# Altium schematic symbol library Schlib SOM AM625.SchLib: 118 symbols (part 1 of 4)
Pins are listed as number, name and electrical type; pins without a type are passive.

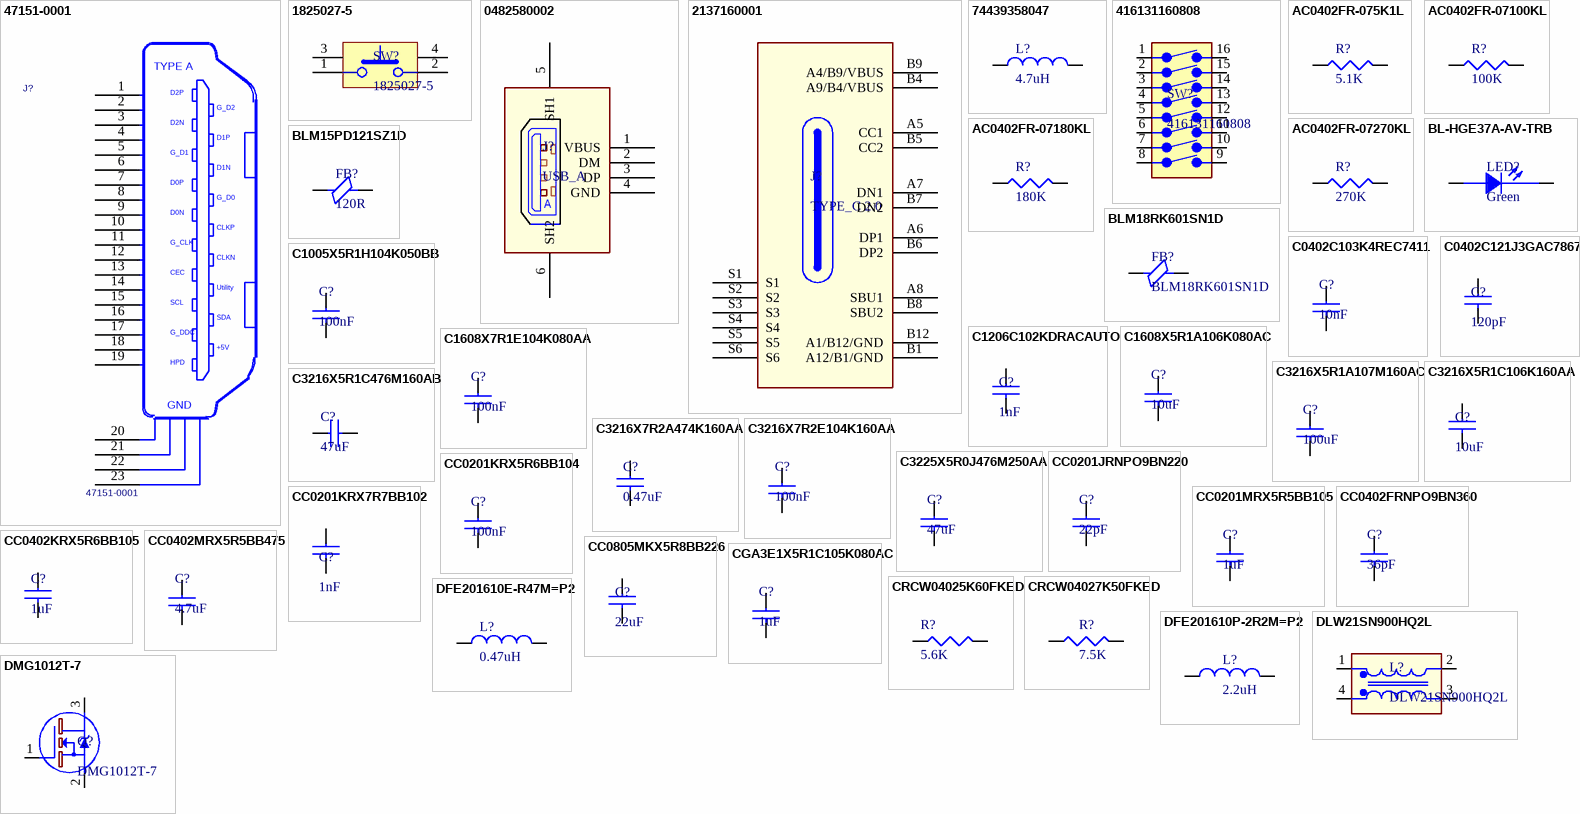
[diagram p0: symbols 47151-0001 to DMG1012T-7]

## 47151-0001
designator J?
CONN RCPT 19POS HDMI RT ANG SMD; Manufacturer: Molex Connector Corporation; .Checked PCB: used; Number of Positions: 19; Pitch: 0.50mm (.020"); Gender: Receptacle; .Checked SCH: used; Category: Connectors, Interconnects; Connector Type: HDMI; Family: USB, IEEE-1394 (Firewire), DVI, HDMI; Manufacturer Part Number: 47151-0001; Operating Temperature: -20°C to +85°C; Price 1k [$]: 1.74610; Supplier: Digikey; Supplier Part Number: WM19086CT-ND; Value: 47151-0001; Supplier 1: Digi-Key; Supplier Part Number 1: WM19086CT-ND; RoHS: RoHS Compliant; Stock 1: 2756; Pricing 1: 1=3.1, 10=2.57, 50=2.1456, 100=1.9034 (USD); Number of Contacts: 19; Specifications: -; Mounting Type: Surface Mount, Right Angle, Horizontal; Features: Detent Lock; Packaging: Cut Tape (CT); Ingress Protection: -; ComponentLink1URL: http://www.molex.com/pdm_docs/sd/471510001_sd.pdf; ComponentLink1Description: http://www.molex.com/pdm_docs/sd/471510001_sd.pdf
footprint HDMI
pins: 1 D2+, 2 D2GND (power), 3 D2-, 4 D1+, 5 D1GND (power), 6 D1-, 7 D0+, 8 D0GND (power), 9 D0-, 10 CK+, 11 CKGND (power), 12 CK-, 13 CEC, 14 Utility, 15 SCL, 16 SDA, 17 DDCGND (power), 18 +5V, 19 HPD, 20 GND1, 21 GND2, 22 GND3, 23 GND4
text: TYPE A; D2P; G_D2; D2N; D1P; G_D1; D1N; D0P; G_D0; D0N; CLKP; G_CLK; CLKN; G_DDC; GND

## 1825027-5
designator SW?
Switch Tactile OFF (ON) SPST Round Button PC Pins 0.05A 24VDC 1.57N Thru-Hole Loose Piece; Manufacturer: TE Connectivity; Actuator Material: PBT,Polybutylene; Mechanical Life: 100000Cycles; Operating Force: 160gf; Contact Current Rating: 50mA; Voltage Rating (DC): 24V; Illumination Type: Non-Illuminated; Switch Function: Off-Mom; Actuator Type: Standard; Switch Travel: 0.25mm; Contact Resistance: 100mR; Number of Positions: 2NUMBER; Actuator Length: 1.24mm; Supplier 1: Digi-Key; Manufacturer Part Number: 1825027-5; RoHS: Yes; Category: Pushbutton Switches; Stock 1: 67441; Pricing 1: 1=0.21, 10=0.202, 25=0.192, 100=0.1744, 250=0.16392, 500=0.14996, 1000=0.12555, 2500=0.12206, 5000=0.11509 (USD); Mount: Through Hole; Contact Material: 151ConductorMaterial; Contact Plating: 159ConductorMaterial; Color: 46Colour; Min Operating Temperature: -35°C; Max Operating Temperature: 85°C; Packaging: Bulk; Throw Configuration: SPST; Termination: PC Pin; Series: FSMRAJ; Insulation Resistance: 100MR; Width: 7.11mm; Height: 7.31mm; RoHS Compliant: Yes; Lead Free: 5697LeadFree; Supplier Part Number 1: 450-1662-ND
footprint FSMRA2JH (Creator MM)
pins: 1, 2, 3 MECH1, 4 MECH2

## 0482580002
designator J?, comment USB_A
Conn USB Type A RCP 4 POS 3.5mm Solder RA Thru-Hole 4 Terminal 1 Port Embossed T/R; Manufacturer: Molex; Manufacturer Part Number: 0482580002; Supplier 1: Mouser; RoHS: Yes; Stock 1: 4775; Pricing 1: 1=1.05, 10=0.875, 50=0.875, 100=0.767, 1000=0.65, 10000=0.619 (USD); ComponentLink1URL: https://datasheet.octopart.com/48258-0002-Molex-datasheet-68645054.pdf?src-supplier=Element14; ComponentLink1Description: https://datasheet.octopart.com/48258-0002-Molex-datasheet-68645054.pdf?src-supplier=Element14; ComponentLink2URL: https://www.molex.com/pdm_docs/sd/482580002_sd.pdf?src-supplier=Digi-Key; ComponentLink2Description: https://www.molex.com/pdm_docs/sd/482580002_sd.pdf?src-supplier=Digi-Key; Supplier Part Number 1: 538-48258-0002
footprint MOLEX_0482580002
pins: 1 VBUS, 2 DM, 3 DP, 4 GND, 5 SH1, 6 SH2
text: A

## 2137160001
designator J?, comment TYPE_C 2.0
Conn USB 2.0 Type C F 16 POS 0.85mm Solder RA Thru-Hole 16 Terminal 1 Port T/R; Manufacturer: Molex; Manufacturer Part Number: 2137160001; Supplier 1: Mouser; RoHS: No; Category: Connectors; Stock 1: 4933; Pricing 1: 1=1.24, 10=1.01, 50=1.01, 100=0.862, 1000=0.645, 10000=0.629 (USD); Supplier Part Number 1: 538-213716-0001
footprint USB4105_GCT
pins: A5 CC1, A6 DP1, A7 DN1, A8 SBU1, B1 A12/B1/GND, B4 A9/B4/VBUS, B5 CC2, B6 DP2, B7 DN2, B8 SBU2, B9 A4/B9/VBUS, B12 A1/B12/GND, S1, S2, S3, S4, S5, S6

## 74439358047
designator L?, comment 4.7uH
Fixed Ind 4.7UH 9.5A 8.65 Mohm; Manufacturer: Wurth Electronics; Manufacturer Part Number: 74439358047; Core Material: Ferrite,Metal,Composite; Saturation Current: 20.5A; Shielding: Shielded; DC Resistance (DCR): 8.65mR; Self Resonant Frequency: 25MHz; Test Frequency: 100kHz; Tolerance: 20%; Supplier 1: Digi-Key; RoHS: Yes; Category: Fixed Inductors; Stock 1: 2723; Pricing 1: 1=4.69, 50=4.048, 100=3.49, 250=3.06 (USD); Mount: Surface Mount; Case/Package: Nonstandard; Min Operating Temperature: -40°C; Max Operating Temperature: 125°C; Packaging: Cut Tape; Inductance: 4.7uH; Current Rating: 9.5A; RMS Current (Irms): 9.5A; Inductance Tolerance: 20%; Series: WE-XHMI; Length: 0.346inch; Width: 0.327inch; Height - Seated (Max): 0.315inch; RoHS Compliant: Yes; Reach SVHC Compliant: Unknown; ComponentLink1URL: http://www.farnell.com/datasheets/1951867.pdf?src-supplier=Farnell; ComponentLink1Description: http://www.farnell.com/datasheets/1951867.pdf?src-supplier=Farnell; ComponentLink2URL: http://www.farnell.com/datasheets/1951867.pdf?src-supplier=Element14; ComponentLink2Description: http://www.farnell.com/datasheets/1951867.pdf?src-supplier=Element14; ComponentLink3URL: https://katalog.we-online.de/pbs/datasheet/74439358047.pdf?src-supplier=Digi-Key; ComponentLink3Description: https://katalog.we-online.de/pbs/datasheet/74439358047.pdf?src-supplier=Digi-Key; Supplier Part Number 1: 732-7275-1-ND
footprint IND_WE-XHMI_8080_WRE
pins: 1, 2

## 416131160808
designator SW?
Slide Dip Switch, 8 Switches, 8PST, Latched, 0.025A, 24VDC, Solder Terminal, Surface Mount-straight; Manufacturer: Wurth Electronics; Supplier 1: Digi-Key; Manufacturer Part Number: 416131160808; RoHS: Yes; Category: DIP Switches; Stock 1: 11089; Pricing 1: 1=6.8, 10=6.579, 50=6.233, 100=5.54, 500=5.19402 (USD); ComponentLink1URL: https://datasheet.ciiva.com/2863/4161311608xx-2863767.pdf?src-supplier=Digi-Key; ComponentLink1Description: https://datasheet.ciiva.com/2863/4161311608xx-2863767.pdf?src-supplier=Digi-Key; ComponentLink2URL: https://datasheet.ciiva.com/2863/4161311608xx-2863768.pdf?src-supplier=Digi-Key; ComponentLink2Description: https://datasheet.ciiva.com/2863/4161311608xx-2863768.pdf?src-supplier=Digi-Key; ComponentLink3URL: https://datasheet.ciiva.com/1528/4161311608xx-1528930.pdf?src-supplier=Element14; ComponentLink3Description: https://datasheet.ciiva.com/1528/4161311608xx-1528930.pdf?src-supplier=Element14; ComponentLink4URL: https://datasheet.ciiva.com/1625/4161311608xx-1625347.pdf?src-supplier=Farnell; ComponentLink4Description: https://datasheet.ciiva.com/1625/4161311608xx-1625347.pdf?src-supplier=Farnell; Supplier Part Number 1: 732-416131160808CT-ND
footprint SW_416131160808
pins: 1, 2, 3, 4, 5, 6, 7, 8, 9, 10, 11, 12, 13, 14, 15, 16

## AC0402FR-075K1L
designator R?, comment 5.1K
SMD Chip Resistor, 5.1 kOhm, ± 1%, 63 mW, 0402 [1005 Metric], Thick Film, General Purpose; Manufacturer: Yageo; Manufacturer Part Number: AC0402FR-075K1L; Resistance: 5.1kR; Power Rating: 63mW; Temperature Coefficient: 100ppm/°C; Voltage Rating: 50V; Supplier 1: Future Electronics; RoHS: Yes; Category: Chip SMD Resistors; Stock 1: 10000; Pricing 1: 10000=0.0011, 50000=0.001, 200000=0.0009, 500000=0.0009, 1250000=0.0008 (USD); Mount: Surface Mount; Case/Package: 0402; Case Code (Metric): 1005; Case Code (Imperial): 0402; Size Code: 0402; Min Operating Temperature: -55°C; Max Operating Temperature: 155°C; Tolerance: 1%; Packaging: Cut Tape; Number of Terminations: 2; Max Power Dissipation: 63mW; Features: Moisture Resistant,Automotive AEC-Q200; Series: AC; Length: 0.039inch; Width: 0.02inch; Height: 0.015inch; RoHS Compliant: Yes; Lead Free: 5697LeadFree; ComponentLink1URL: https://datasheet.octopart.com/AC0402FR-075K1L-Yageo-datasheet-166720450.pdf?src-supplier=Future+Electronics; ComponentLink1Description: https://datasheet.octopart.com/AC0402FR-075K1L-Yageo-datasheet-166720450.pdf?src-supplier=Future+Electronics; ComponentLink2URL: http://www.yageo.com/documents/recent/PYu-AC_51_RoHS_L_2_revised.pdf?src-supplier=Future+Electronics; ComponentLink2Description: http://www.yageo.com/documents/recent/PYu-AC_51_RoHS_L_2_revised.pdf?src-supplier=Future+Electronics; Supplier Part Number 1: 8112408
footprint R0402
pins: 1, 2

## AC0402FR-07100KL
designator R?, comment 100K
SMD Chip Resistor, 100 kOhm, ± 1%, 63 mW, 0402 [1005 Metric], Thick Film, General Purpose; Manufacturer: Yageo; Manufacturer Part Number: AC0402FR-07100KL; Resistance: 100kR; Power Rating: 62.5mW; Voltage Rating: 50V; Max Power Dissipation: 63mW; Temperature Coefficient: 100ppm/°C; Supplier 1: Future Electronics; RoHS: Yes; Category: Chip SMD Resistors; Stock 1: 3080000; Pricing 1: 10000=0.0013, 50000=0.0012, 200000=0.0011, 500000=0.0011, 1250000=0.001 (USD); Case/Package: 0402; Case Code (Imperial): 0402; Case Code (Metric): 1005; Size Code: 0402; Min Operating Temperature: -55°C; Max Operating Temperature: 155°C; Tolerance: 1%; Packaging: Tape and Reel; Number of Terminations: 2; Termination: SMD/SMT; Features: Moisture Resistant,Automotive AEC-Q200; Series: AC; Length: 0.039inch; Width: 0.5mm; Height: 0.015inch; RoHS Compliant: Yes; Lead Free: 5697LeadFree; ComponentLink1URL: http://www.yageo.com/documents/recent/PYu-AC_51_RoHS_L_2.pdf?src-supplier=Mouser; ComponentLink1Description: http://www.yageo.com/documents/recent/PYu-AC_51_RoHS_L_2.pdf?src-supplier=Mouser; ComponentLink2URL: https://datasheet.octopart.com/AC0402FR-07100KL-Yageo-datasheet-166720450.pdf?src-supplier=Future+Electronics; ComponentLink2Description: https://datasheet.octopart.com/AC0402FR-07100KL-Yageo-datasheet-166720450.pdf?src-supplier=Future+Electronics; ComponentLink3URL: http://www.yageo.com/documents/recent/PYu-AC_51_RoHS_L_2_revised.pdf?src-supplier=Future+Electronics; ComponentLink3Description: http://www.yageo.com/documents/recent/PYu-AC_51_RoHS_L_2_revised.pdf?src-supplier=Future+Electronics; Supplier Part Number 1: 8025350
footprint R0402
pins: 1, 2

## AC0402FR-07180KL
designator R?, comment 180K
SMD Chip Resistor, 180 kOhm, ± 1%, 63 mW, 0402 [1005 Metric], Thick Film, General Purpose; Manufacturer: Yageo; Manufacturer Part Number: AC0402FR-07180KL; Supplier 1: Arrow Electronics; RoHS: Yes; Category: Chip SMD Resistors; Stock 1: 18226; Pricing 1: 1=0.057, 10=0.0063, 25=0.0062, 100=0.004, 500=0.0033, 1000=0.0023, 3000=0.0021, 6000=0.0011 (USD); ComponentLink1URL: http://www.yageo.com/documents/recent/PYu-AC_51_RoHS_L_2.pdf?src-supplier=Mouser; ComponentLink1Description: http://www.yageo.com/documents/recent/PYu-AC_51_RoHS_L_2.pdf?src-supplier=Mouser; ComponentLink2URL: http://www.yageo.com/NewPortal/yageodocoutput?fileName=/pdf/R-Chip/PYu-AC_51_RoHS_L_6.pdf&src-supplier=Digi-Key; ComponentLink2Description: http://www.yageo.com/NewPortal/yageodocoutput?fileName=/pdf/R-Chip/PYu-AC_51_RoHS_L_6.pdf&src-supplier=Digi-Key; ComponentLink3URL: http://www.yageo.com/documents/recent/PYu-AC_51_RoHS_L_2_revised.pdf?src-supplier=Future+Electronics; ComponentLink3Description: http://www.yageo.com/documents/recent/PYu-AC_51_RoHS_L_2_revised.pdf?src-supplier=Future+Electronics; ComponentLink4URL: https://datasheet.octopart.com/AC0402FR-07180KL-Yageo-datasheet-151884373.pdf?src-supplier=Future+Electronics; ComponentLink4Description: https://datasheet.octopart.com/AC0402FR-07180KL-Yageo-datasheet-151884373.pdf?src-supplier=Future+Electronics; Supplier Part Number 1: AC0402FR-07180KL
footprint R0402
pins: 1, 2

## AC0402FR-07270KL
designator R?, comment 270K
SMD Chip Resistor, 270 kOhm, ± 1%, 63 mW, 0402 [1005 Metric], Thick Film, General Purpose; Manufacturer: Yageo; Manufacturer Part Number: AC0402FR-07270KL; Supplier 1: Future Electronics; RoHS: Yes; Category: Chip SMD Resistors; Stock 1: 10000; Pricing 1: 10000=0.0013, 50000=0.0012, 200000=0.0011, 500000=0.0011, 1250000=0.001 (USD); ComponentLink1URL: https://datasheet.ciiva.com/5558/pyu-ac-51-rohs-l-2-5558079.pdf?src-supplier=Mouser; ComponentLink1Description: https://datasheet.ciiva.com/5558/pyu-ac-51-rohs-l-2-5558079.pdf?src-supplier=Mouser; Supplier Part Number 1: 1031172
footprint R0402
pins: 1, 2

## BL-HGE37A-AV-TRB
designator LED?, comment Green
Yellow Green 0402 1X.5X4MM; Manufacturer: American Bright; Manufacturer Part Number: BL-HGE37A-AV-TRB; Supplier 1: Digi-Key; RoHS: Yes; Category: LEDs; Stock 1: 34287; Pricing 1: 1=0.34, 10=0.268, 100=0.1202, 500=0.1086, 1000=0.0892 (USD); ComponentLink1URL: http://americanbrightled.com/pdffiles/smt/BL-HGE37A-AV-TRB.pdf?src-supplier=Digi-Key; ComponentLink1Description: http://americanbrightled.com/pdffiles/smt/BL-HGE37A-AV-TRB.pdf?src-supplier=Digi-Key; ComponentLink2URL: http://www.americanbrightled.com/pdffiles/smt/BL-HGE37A-AV-TRB.pdf?src-supplier=Digi-Key; ComponentLink2Description: http://www.americanbrightled.com/pdffiles/smt/BL-HGE37A-AV-TRB.pdf?src-supplier=Digi-Key; Supplier Part Number 1: BL-HGE37A-AV-TRBCT-ND
footprint led0402_G
pins: 1 A, 2 C

## BLM15PD121SZ1D
designator FB?, comment 120R
Ferrite Beads Multi-Layer 120Ohm 25% 100MHz 1.3A 0.09Ohm DCR 0402 Automotive T/R; Manufacturer: Murata; Manufacturer Part Number: BLM15PD121SZ1D; Core Material: 228ConductorMaterial; Number of Lines: 1; Resistance: 90mR; Supplier 1: Arrow Electronics; RoHS: Yes; Category: Ferrite Beads and Chips; Stock 1: 10000; Pricing 1: 10000=0.0178, 20000=0.0168, 30000=0.016, 50000=0.0158 (USD); Mount: Surface Mount; Case/Package: 0402; Case Code (Imperial): 0402; Case Code (Metric): 1005; Min Operating Temperature: -55°C; Max Operating Temperature: 125°C; Packaging: Cut Tape; Max Current Rating: 1.3A; Series: EMIFIL®, BLM15; RMS Current (Irms): 1.3A; Series Resistance: 90mR; Test Frequency: 100MHz; Tolerance: 25%; Height: 550um; Ratings: AEC-Q200; RoHS Compliant: Yes; ComponentLink1URL: https://www.murata.com/en-us/products/productdata/8796748677150/QNFA9118.pdf?src-supplier=Digi-Key; ComponentLink1Description: https://www.murata.com/en-us/products/productdata/8796748677150/QNFA9118.pdf?src-supplier=Digi-Key; Supplier Part Number 1: BLM15PD121SZ1D
footprint FB0402
pins: 1, 2

## BLM18RK601SN1D
designator FB?
Ferrite Beads Multi-Layer 600Ohm 25% 100MHz 200mA 600mOhm DCR 0603 T/R; Manufacturer: Murata; Manufacturer Series: BLM18R; Material: Ferrite,Steel; Impedance: 600R; Resistance: 600mR; Number of Lines: 1; Shielding: Unshielded; Supplier 1: Arrow Electronics; Manufacturer Part Number: BLM18RK601SN1D; RoHS: Yes; Category: Ferrite Beads and Chips; Stock 1: 184000; Pricing 1: 4000=0.0189, 8000=0.0177, 12000=0.0146, 28000=0.0109, 100000=0.0108 (USD); Case/Package: 0603; Number of Pins: 2; Core Material: Ferrite; Case Code (Metric): 1608; Case Code (Imperial): 0603; Contact Plating: Tin,Matte; Terminal Finish: Tin; Min Operating Temperature: -55°C; Max Operating Temperature: 125°C; Max Current Rating: 200mA; Tolerance: 25%; Package Quantity: 1; Packaging: Tape and Reel; Current Rating: 200mA; ESR (Equivalent Series Resistance): 600R; Max DC Current: 200mA; DC Resistance (DCR): 600mR; Termination: Flat; Test Frequency: 100MHz; Number of Circuits: 1; Series: BLM18R; DC Resistance-Max: 600mR; Number of Functions: 1; RMS Current (Irms): 200mA; Series Resistance: 600mR; Length: 1.6mm; Width: 0.8mm; Height: 0.8mm; Depth: 0.8mm; Reach SVHC Compliant: No; Lead Free: Lead Free; RoHS Compliant: Yes; ComponentLink1URL: https://datasheet.ciiva.com/19458/1845110-19458414.pdf?src-supplier=Jameco; ComponentLink1Description: https://datasheet.ciiva.com/19458/1845110-19458414.pdf?src-supplier=Jameco; ComponentLink2URL: https://datasheet.ciiva.com/41449/001171722-da-01-en-chip-drossel0603-600r-200ma-1-6x0-8mm-41449351.pdf?src-supplier=Conrad; ComponentLink2Description: https://datasheet.ciiva.com/41449/001171722-da-01-en-chip-drossel0603-600r-200ma-1-6x0-8mm-41449351.pdf?src-supplier=Conrad; ComponentLink3URL: https://datasheet.ciiva.com/41449/001172311-da-01-en-drossel-0603-600r-1-6x0-8mm-4000st-41449673.pdf?src-supplier=Conrad; ComponentLink3Description: https://datasheet.ciiva.com/41449/001172311-da-01-en-drossel-0603-600r-1-6x0-8mm-4000st-41449673.pdf?src-supplier=Conrad; ComponentLink4URL: https://datasheet.ciiva.com/8021/5149-8021509.pdf?src-supplier=Element14; ComponentLink4Description: https://datasheet.ciiva.com/8021/5149-8021509.pdf?src-supplier=Element14; ComponentLink5URL: https://datasheet.ciiva.com/8021/5149-8021510.pdf?src-supplier=Element14; ComponentLink5Description: https://datasheet.ciiva.com/8021/5149-8021510.pdf?src-supplier=Element14; ComponentLink6URL: https://datasheet.ciiva.com/6212/l0110e-6212491.pdf?src-supplier=Digi-Key; ComponentLink6Description: https://datasheet.ciiva.com/6212/l0110e-6212491.pdf?src-supplier=Digi-Key; ComponentLink7URL: https://datasheet.ciiva.com/6212/l0110e-6212490.pdf?src-supplier=Digi-Key; ComponentLink7Description: https://datasheet.ciiva.com/6212/l0110e-6212490.pdf?src-supplier=Digi-Key; ComponentLink8URL: https://datasheet.ciiva.com/6212/l0110e-6212493.pdf?src-supplier=Digi-Key; ComponentLink8Description: https://datasheet.ciiva.com/6212/l0110e-6212493.pdf?src-supplier=Digi-Key; ComponentLink9URL: https://datasheet.ciiva.com/3067/c31e-3067188.pdf?src-supplier=Avnet; ComponentLink9Description: https://datasheet.ciiva.com/3067/c31e-3067188.pdf?src-supplier=Avnet; Supplier Part Number 1: BLM18RK601SN1D
footprint FB0603
pins: 1, 2

## C0402C103K4REC7411
designator C?, comment 10nF
ESD SMD Comm X7R 0402 (1005Metric) ceramic capacitor 0.039Lx0.020W 1.00mmx0.50mm X7R ±10% 10000pF; Manufacturer: KEMET; Manufacturer Part Number: C0402C103K4REC7411; Supplier 1: Mouser; RoHS: Yes; Category: Ceramic Capacitors; Stock 1: 20602; Pricing 1: 1=0.1, 10=0.041, 50=0.041, 100=0.024, 1000=0.02, 10000=0.015 (USD); RoHS Compliant: Yes; ComponentLink1URL: https://api.kemet.com/component-edge/download/datasheet/C0402C103K4REC7411.pdf?src-supplier=Digi-Key; ComponentLink1Description: https://api.kemet.com/component-edge/download/datasheet/C0402C103K4REC7411.pdf?src-supplier=Digi-Key; Supplier Part Number 1: 80-C0402C103K4RECLR
footprint C0402
pins: 1, 2

## C0402C121J3GAC7867
designator C?, comment 120pF
Cap Ceramic 120pF 25V C0G 5% SMD 0402 125°C Paper T/R; Manufacturer: KEMET; Manufacturer Part Number: C0402C121J3GAC7867; Supplier 1: Digi-Key; RoHS: Yes; Category: Ceramic Capacitors; Stock 1: 88769; Pricing 1: 1=0.1, 10=0.033, 50=0.0188, 100=0.0146, 500=0.01096, 1000=0.00861, 2500=0.00783, 5000=0.0072 (USD); ComponentLink1URL: https://api.kemet.com/component-edge/download/datasheet/C0402C121J3GAC7867.pdf?src-supplier=Digi-Key; ComponentLink1Description: https://api.kemet.com/component-edge/download/datasheet/C0402C121J3GAC7867.pdf?src-supplier=Digi-Key; Supplier Part Number 1: 399-14880-1-ND
footprint C0402
pins: 1, 2

## C1005X5R1H104K050BB
designator C?, comment 100nF
Multilayer Ceramic Capacitor, 0.1 uF, 50 V, ± 10%, X5R, 0402 [1005 Metric]; Manufacturer: TDK; Manufacturer Part Number: C1005X5R1H104K050BB; Voltage Rating: 50V; Supplier 1: Digi-Key; RoHS: Yes; Category: Ceramic Capacitors; Stock 1: 1455249; Pricing 1: 1=0.11, 10=0.076, 50=0.0438, 100=0.034, 500=0.0256, 1000=0.02011, 2500=0.01828, 5000=0.01682 (USD); Mount: Surface Mount; Case/Package: 0402; Case Code (Metric): 1005; Case Code (Imperial): 0402; Min Operating Temperature: -55°C; Max Operating Temperature: 85°C; Capacitance: 100nF; Tolerance: 10%; Packaging: Tape and Reel; Dielectric: X5R; Construction: Flat; Voltage: 50V; Series: C; Length: 1mm; Height: 0.5mm; Depth: 0.5mm; Radiation Hardening: No; RoHS Compliant: Yes; Reach SVHC Compliant: Unknown; ComponentLink1URL: https://datasheet.ciiva.com/26946/getdatasheetpartid-743571-26946503.pdf?src-supplier=Verical; ComponentLink1Description: https://datasheet.ciiva.com/26946/getdatasheetpartid-743571-26946503.pdf?src-supplier=Verical; ComponentLink2URL: https://datasheet.ciiva.com/16494/e413-c-16494264.pdf?src-supplier=Future+Electronics; ComponentLink2Description: https://datasheet.ciiva.com/16494/e413-c-16494264.pdf?src-supplier=Future+Electronics; ComponentLink3URL: https://datasheet.ciiva.com/6292/tdkmlcccaprange-6292486.pdf?src-supplier=Digi-Key; ComponentLink3Description: https://datasheet.ciiva.com/6292/tdkmlcccaprange-6292486.pdf?src-supplier=Digi-Key; Supplier Part Number 1: 445-5942-1-ND
footprint C0402
pins: 1, 2

## C1206C102KDRACAUTO
designator C?, comment 1nF
Cap Ceramic 0.001uF 1000V X7R 10% Pad SMD 1206 125°C Low ESR Automotive Medical T/R; Manufacturer: KEMET; Manufacturer Part Number: C1206C102KDRACAUTO; Dielectric Material: 4241ConductorMaterial; Supplier 1: Mouser; RoHS: Yes; Category: Ceramic Capacitors; Stock 1: 30132; Pricing 1: 1=0.29, 10=0.122, 50=0.122, 100=0.076, 1000=0.07, 10000=0.061 (USD); ComponentLink1URL: http://www.mouser.com/ds/2/212/KEM_C1010_X7R_HV_SMD-345925.pdf?src-supplier=Mouser; ComponentLink1Description: http://www.mouser.com/ds/2/212/KEM_C1010_X7R_HV_SMD-345925.pdf?src-supplier=Mouser; ComponentLink2URL: https://api.kemet.com/component-edge/download/datasheet/C1206C102KDRACAUTO.pdf?src-supplier=Digi-Key; ComponentLink2Description: https://api.kemet.com/component-edge/download/datasheet/C1206C102KDRACAUTO.pdf?src-supplier=Digi-Key; ComponentLink3URL: https://api.kemet.com/component-edge/download/specsheet/C1206C102KDRACAUTO.pdf?src-supplier=Digi-Key; ComponentLink3Description: https://api.kemet.com/component-edge/download/specsheet/C1206C102KDRACAUTO.pdf?src-supplier=Digi-Key; ComponentLink4URL: http://www.farnell.com/datasheets/2747389.pdf?src-supplier=Newark; ComponentLink4Description: http://www.farnell.com/datasheets/2747389.pdf?src-supplier=Newark; ComponentLink5URL: https://datasheet.octopart.com/C1206C102KDRACAUTO-KEMET-datasheet-149525139.pdf?src-supplier=Farnell; ComponentLink5Description: https://datasheet.octopart.com/C1206C102KDRACAUTO-KEMET-datasheet-149525139.pdf?src-supplier=Farnell; Supplier Part Number 1: 80-C1206C102KDRAUTO
footprint C1206B/3216MM (Chip Capacitor, 2-Leads, Body 3.2x1.6mm, IPC Medium Density)
pins: 1, 2

## C1608X5R1A106K080AC
designator C?, comment 10uF
Multilayer Ceramic Capacitor, 10 uF, 10 V, ± 10%, X5R, 0603 [1608 Metric]; Manufacturer: TDK; Manufacturer Part Number: C1608X5R1A106K080AC; Material: 4241ConductorMaterial; Voltage Rating (DC): 10V; Supplier 1: Arrow Electronics; RoHS: Yes; Category: Ceramic Capacitors; Stock 1: 3399; Pricing 1: 1=0.263, 10=0.156, 25=0.1544, 50=0.1444, 100=0.1124, 250=0.1113, 500=0.1094, 1000=0.0748, 3000=0.0665 (USD); Mount: Surface Mount; Case/Package: 0603; Number of Pins: 2; Dielectric Material: Ceramic; Case Code (Imperial): 0603; Case Code (Metric): 1608; Weight: 7.1E-05oz; Min Operating Temperature: -55°C; Max Operating Temperature: 85°C; Capacitance: 10uF; Tolerance: 10%; Dielectric: X5R; Packaging: Tape and Reel; Voltage Rating: 10V; Package Quantity: 1; Termination: SMD/SMT; Voltage: 10V; Series: C; Construction: Flat; Length: 1.6mm; Width: 0.031inch; Height: 0.8mm; Depth: 0.8mm; Thickness: 0.035inch; Lead Free: Lead Free; Reach SVHC Compliant: No; RoHS Compliant: Yes; ComponentLink1URL: https://datasheet.ciiva.com/23802/1796654-23802763.pdf?src-supplier=Newark; ComponentLink1Description: https://datasheet.ciiva.com/23802/1796654-23802763.pdf?src-supplier=Newark; ComponentLink2URL: https://datasheet.ciiva.com/7975/1796654-7975065.pdf?src-supplier=Element14; ComponentLink2Description: https://datasheet.ciiva.com/7975/1796654-7975065.pdf?src-supplier=Element14; ComponentLink3URL: https://datasheet.ciiva.com/22694/1796654-22694118.pdf?src-supplier=Element14; ComponentLink3Description: https://datasheet.ciiva.com/22694/1796654-22694118.pdf?src-supplier=Element14; ComponentLink4URL: https://datasheet.ciiva.com/28577/mlcc-commercial-general-en-28577085.pdf?src-supplier=Element14; ComponentLink4Description: https://datasheet.ciiva.com/28577/mlcc-commercial-general-en-28577085.pdf?src-supplier=Element14; ComponentLink5URL: https://datasheet.ciiva.com/28577/1744655-28577071.pdf?src-supplier=Element14; ComponentLink5Description: https://datasheet.ciiva.com/28577/1744655-28577071.pdf?src-supplier=Element14; ComponentLink6URL: https://datasheet.ciiva.com/6288/tdkmlcccaprange-6288222.pdf?src-supplier=Digi-Key; ComponentLink6Description: https://datasheet.ciiva.com/6288/tdkmlcccaprange-6288222.pdf?src-supplier=Digi-Key; ComponentLink7URL: https://datasheet.ciiva.com/6288/tdkmlcccaprange-6288220.pdf?src-supplier=Digi-Key; ComponentLink7Description: https://datasheet.ciiva.com/6288/tdkmlcccaprange-6288220.pdf?src-supplier=Digi-Key; ComponentLink8URL: https://datasheet.ciiva.com/6288/tdkmlcccaprange-6288223.pdf?src-supplier=Digi-Key; ComponentLink8Description: https://datasheet.ciiva.com/6288/tdkmlcccaprange-6288223.pdf?src-supplier=Digi-Key; ComponentLink9URL: https://datasheet.ciiva.com/16449/mlcc-commercial-general-en-16449573.pdf?src-supplier=Future+Electronics; ComponentLink9Description: https://datasheet.ciiva.com/16449/mlcc-commercial-general-en-16449573.pdf?src-supplier=Future+Electronics; ComponentLink10URL: https://datasheet.ciiva.com/48671/e412-c-48671301.pdf?src-supplier=Avnet; ComponentLink10Description: https://datasheet.ciiva.com/48671/e412-c-48671301.pdf?src-supplier=Avnet; Supplier Part Number 1: C1608X5R1A106K080AC
footprint C0603
pins: 1, 2

## C1608X7R1E104K080AA
designator C?, comment 100nF
Multilayer Ceramic Capacitor, 0.1 uF, 25 V, ± 10%, X7R, 0603 [1608 Metric]; Manufacturer: TDK; Manufacturer Part Number: C1608X7R1E104K080AA; Material: 4241ConductorMaterial; Voltage Rating: 25V; Supplier 1: Arrow Electronics; RoHS: Yes; Category: Ceramic Capacitors; Stock 1: 20; Pricing 1: 1=0.0528, 10=0.0066 (USD); Mount: Surface Mount; Case/Package: 0603; Number of Pins: 2NUMBER; Case Code (Imperial): 0603; Case Code (Metric): 1608; Dielectric Material: 4241ConductorMaterial; Min Operating Temperature: -55°C; Max Operating Temperature: 125°C; Capacitance: 100nF; Tolerance: 10%; Dielectric: X7R; Packaging: Tape and Reel; Package Quantity: 4000; Voltage: 25V; Series: C; Construction: Flat; Length: 1.6mm; Width: 0.031inch; Height: 0.8mm; Thickness: 0.037inch; Depth: 0.8mm; Reach SVHC Compliant: No; RoHS Compliant: Yes; Lead Free: 5697LeadFree; ComponentLink1URL: https://datasheet.ciiva.com/22749/1744655-22749596.pdf?src-supplier=Element14; ComponentLink1Description: https://datasheet.ciiva.com/22749/1744655-22749596.pdf?src-supplier=Element14; ComponentLink2URL: https://datasheet.ciiva.com/6250/tdkmlcccaprange-6250455.pdf?src-supplier=Digi-Key; ComponentLink2Description: https://datasheet.ciiva.com/6250/tdkmlcccaprange-6250455.pdf?src-supplier=Digi-Key; ComponentLink3URL: https://datasheet.ciiva.com/6250/tdkmlcccaprange-6250454.pdf?src-supplier=Digi-Key; ComponentLink3Description: https://datasheet.ciiva.com/6250/tdkmlcccaprange-6250454.pdf?src-supplier=Digi-Key; ComponentLink4URL: https://datasheet.ciiva.com/6250/tdkmlcccaprange-6250456.pdf?src-supplier=Digi-Key; ComponentLink4Description: https://datasheet.ciiva.com/6250/tdkmlcccaprange-6250456.pdf?src-supplier=Digi-Key; Supplier Part Number 1: C1608X7R1E104K080AA
footprint C0603
pins: 1, 2

## C3216X5R1A107M160AC
designator C?, comment 100uF
Multilayer Ceramic Capacitor, C Series, 100 - F, - 20%, X5R, 10 V, 1206 [3216 Metric]; Manufacturer: TDK; Manufacturer Part Number: C3216X5R1A107M160AC; Material: 4241ConductorMaterial; Voltage Rating: 10V; Supplier 1: Arrow Electronics; RoHS: Yes; Category: Ceramic Capacitors; Stock 1: 18000; Pricing 1: 2000=0.4841 (USD); Mount: Surface Mount; Case/Package: 1206; Case Code (Imperial): 1206; Case Code (Metric): 3216; Weight: 0.000571oz; Dielectric Material: Ceramic; Min Operating Temperature: -55°C; Max Operating Temperature: 85°C; Capacitance: 100uF; Tolerance: 20%; Voltage Rating (DC): 10V; Packaging: Tape and Reel; Package Quantity: 1; Dielectric: X5R; Termination: SMD/SMT; Voltage: 10V; Series: C; Construction: Flat; Length: 3.2mm; Width: 0.063inch; Height: 1.6mm; Thickness: 0.075inch; Depth: 1.6mm; Reach SVHC Compliant: No; Lead Free: Lead Free; RoHS Compliant: Yes; ComponentLink1URL: https://datasheet.ciiva.com/24216/c3216x5r1a107m160ac-265050-24216592.pdf?src-supplier=Mouser; ComponentLink1Description: https://datasheet.ciiva.com/24216/c3216x5r1a107m160ac-265050-24216592.pdf?src-supplier=Mouser; ComponentLink2URL: https://datasheet.ciiva.com/7975/1796654-7975125.pdf?src-supplier=Element14; ComponentLink2Description: https://datasheet.ciiva.com/7975/1796654-7975125.pdf?src-supplier=Element14; ComponentLink3URL: https://datasheet.ciiva.com/22694/1796654-22694157.pdf?src-supplier=Element14; ComponentLink3Description: https://datasheet.ciiva.com/22694/1796654-22694157.pdf?src-supplier=Element14; ComponentLink4URL: https://datasheet.ciiva.com/22725/1913358-22725579.pdf?src-supplier=Element14; ComponentLink4Description: https://datasheet.ciiva.com/22725/1913358-22725579.pdf?src-supplier=Element14; ComponentLink5URL: https://datasheet.ciiva.com/28620/mlcc-commercial-general-en-28620362.pdf?src-supplier=Element14; ComponentLink5Description: https://datasheet.ciiva.com/28620/mlcc-commercial-general-en-28620362.pdf?src-supplier=Element14; ComponentLink6URL: https://datasheet.ciiva.com/6284/tdkmlcccaprange-6284586.pdf?src-supplier=Digi-Key; ComponentLink6Description: https://datasheet.ciiva.com/6284/tdkmlcccaprange-6284586.pdf?src-supplier=Digi-Key; ComponentLink7URL: https://datasheet.ciiva.com/6284/tdkmlcccaprange-6284584.pdf?src-supplier=Digi-Key; ComponentLink7Description: https://datasheet.ciiva.com/6284/tdkmlcccaprange-6284584.pdf?src-supplier=Digi-Key; ComponentLink8URL: https://datasheet.ciiva.com/6284/tdkmlcccaprange-6284588.pdf?src-supplier=Digi-Key; ComponentLink8Description: https://datasheet.ciiva.com/6284/tdkmlcccaprange-6284588.pdf?src-supplier=Digi-Key; ComponentLink9URL: https://datasheet.ciiva.com/16482/e412-c-16482549.pdf?src-supplier=Future+Electronics; ComponentLink9Description: https://datasheet.ciiva.com/16482/e412-c-16482549.pdf?src-supplier=Future+Electronics; ComponentLink10URL: https://datasheet.ciiva.com/48671/e412-c-48671366.pdf?src-supplier=Avnet; ComponentLink10Description: https://datasheet.ciiva.com/48671/e412-c-48671366.pdf?src-supplier=Avnet; Supplier Part Number 1: C3216X5R1A107M160AC
footprint C1206B/3216MM (Chip Capacitor, 2-Leads, Body 3.2x1.6mm, IPC Medium Density)
pins: 1, 2

## C3216X5R1C106K160AA
designator C?, comment 10uF
Multilayer Ceramic Capacitor, 10 uF, 16 V, ± 10%, X5R, 1206 [3216 Metric]; Manufacturer: TDK; Manufacturer Part Number: C3216X5R1C106K160AA; Material: 4241ConductorMaterial; Supplier 1: Digi-Key; RoHS: Yes; Category: Ceramic Capacitors; Stock 1: 12091; Pricing 1: 1=0.3, 10=0.194, 50=0.136, 100=0.1098, 500=0.08158, 1000=0.07138 (USD); ComponentLink1URL: https://datasheet.ciiva.com/24216/c3216x5r1c106k160aa-265031-24216373.pdf?src-supplier=Mouser; ComponentLink1Description: https://datasheet.ciiva.com/24216/c3216x5r1c106k160aa-265031-24216373.pdf?src-supplier=Mouser; ComponentLink2URL: https://datasheet.ciiva.com/11788/0900766b80c1bb00-11788199.pdf?src-supplier=Rs; ComponentLink2Description: https://datasheet.ciiva.com/11788/0900766b80c1bb00-11788199.pdf?src-supplier=Rs; ComponentLink3URL: https://datasheet.ciiva.com/16384/e413-c-16384539.pdf?src-supplier=Future+Electronics; ComponentLink3Description: https://datasheet.ciiva.com/16384/e413-c-16384539.pdf?src-supplier=Future+Electronics; ComponentLink4URL: https://datasheet.ciiva.com/15192/getdatasheetpartid-726778-15192219.pdf?src-supplier=Verical; ComponentLink4Description: https://datasheet.ciiva.com/15192/getdatasheetpartid-726778-15192219.pdf?src-supplier=Verical; ComponentLink5URL: https://datasheet.ciiva.com/6289/tdkmlcccaprange-6289816.pdf?src-supplier=Digi-Key; ComponentLink5Description: https://datasheet.ciiva.com/6289/tdkmlcccaprange-6289816.pdf?src-supplier=Digi-Key; ComponentLink6URL: https://datasheet.ciiva.com/6289/tdkmlcccaprange-6289819.pdf?src-supplier=Digi-Key; ComponentLink6Description: https://datasheet.ciiva.com/6289/tdkmlcccaprange-6289819.pdf?src-supplier=Digi-Key; ComponentLink7URL: https://datasheet.ciiva.com/6191/1571323-6191005.pdf?src-supplier=Farnell; ComponentLink7Description: https://datasheet.ciiva.com/6191/1571323-6191005.pdf?src-supplier=Farnell; ComponentLink8URL: https://datasheet.ciiva.com/7770/1571323-7770223.pdf?src-supplier=Element14; ComponentLink8Description: https://datasheet.ciiva.com/7770/1571323-7770223.pdf?src-supplier=Element14; ComponentLink9URL: https://datasheet.ciiva.com/28451/1796654-28451976.pdf?src-supplier=Element14; ComponentLink9Description: https://datasheet.ciiva.com/28451/1796654-28451976.pdf?src-supplier=Element14; ComponentLink10URL: https://datasheet.ciiva.com/22719/1796654-22719558.pdf?src-supplier=Element14; ComponentLink10Description: https://datasheet.ciiva.com/22719/1796654-22719558.pdf?src-supplier=Element14; Supplier Part Number 1: 445-4052-1-ND
footprint C1206B/3216MM (Chip Capacitor, 2-Leads, Body 3.2x1.6mm, IPC Medium Density)
pins: 1, 2

## C3216X5R1C476M160AB
designator C?, comment 47uF
Multilayer Ceramic Capacitor, 47 uF, 16 V, ± 20%, X5R, 1206 [3216 Metric]; Manufacturer: TDK; Manufacturer Part Number: C3216X5R1C476M160AB; Material: 4241ConductorMaterial; Voltage Rating: 16V; Supplier 1: Digi-Key; RoHS: Yes; Category: Ceramic Capacitors; Stock 1: 94632; Pricing 1: 1=0.97, 10=0.7, 50=0.6118, 100=0.4985, 500=0.40788, 1000=0.35123 (USD); Mount: Surface Mount; Case/Package: 1206; Case Code (Imperial): 1206; Case Code (Metric): 3216; Dielectric Material: Ceramic; Min Operating Temperature: -55°C; Max Operating Temperature: 85°C; Capacitance: 47uF; Tolerance: 20%; Packaging: Tape and Reel; Dielectric: X5R; Series: C; Construction: Flat; Length: 3.2mm; Height: 1.6mm; Depth: 1.6mm; Lead Free: Lead Free; RoHS Compliant: Yes; Reach SVHC Compliant: Unknown; ComponentLink1URL: https://datasheet.ciiva.com/22725/1913358-22725583.pdf?src-supplier=Element14; ComponentLink1Description: https://datasheet.ciiva.com/22725/1913358-22725583.pdf?src-supplier=Element14; ComponentLink2URL: https://datasheet.ciiva.com/22725/1913358-22725581.pdf?src-supplier=Element14; ComponentLink2Description: https://datasheet.ciiva.com/22725/1913358-22725581.pdf?src-supplier=Element14; ComponentLink3URL: https://datasheet.ciiva.com/6285/tdkmlcccaprange-6285563.pdf?src-supplier=Digi-Key; ComponentLink3Description: https://datasheet.ciiva.com/6285/tdkmlcccaprange-6285563.pdf?src-supplier=Digi-Key; ComponentLink4URL: https://datasheet.ciiva.com/6285/tdkmlcccaprange-6285560.pdf?src-supplier=Digi-Key; ComponentLink4Description: https://datasheet.ciiva.com/6285/tdkmlcccaprange-6285560.pdf?src-supplier=Digi-Key; ComponentLink5URL: https://datasheet.ciiva.com/6285/tdkmlcccaprange-6285566.pdf?src-supplier=Digi-Key; ComponentLink5Description: https://datasheet.ciiva.com/6285/tdkmlcccaprange-6285566.pdf?src-supplier=Digi-Key; ComponentLink6URL: https://datasheet.ciiva.com/24471/2972c3216x5r1c476m160ab-24471351.pdf?src-supplier=Onlinecomponents.com; ComponentLink6Description: https://datasheet.ciiva.com/24471/2972c3216x5r1c476m160ab-24471351.pdf?src-supplier=Onlinecomponents.com; ComponentLink7URL: https://datasheet.ciiva.com/16426/mlcc-commercial-general-en-16426989.pdf?src-supplier=Future+Electronics; ComponentLink7Description: https://datasheet.ciiva.com/16426/mlcc-commercial-general-en-16426989.pdf?src-supplier=Future+Electronics; Supplier Part Number 1: 445-6003-1-ND
footprint C1206B/3216MM (Chip Capacitor, 2-Leads, Body 3.2x1.6mm, IPC Medium Density)
pins: 1, 2

## C3216X7R2A474K160AA
designator C?, comment 0.47uF
Multilayer Ceramic Capacitor, 0.47 uF, 100 V, ± 10%, X7R, 1206 [3216 Metric]; Manufacturer: TDK; Manufacturer Part Number: C3216X7R2A474K160AA; Material: 4241ConductorMaterial; Supplier 1: Arrow Electronics; RoHS: Yes; Category: Ceramic Capacitors; Stock 1: 2000; Pricing 1: 1=0.4328, 10=0.2786, 25=0.2674, 50=0.2227, 100=0.1729, 250=0.1711, 500=0.1406, 1000=0.0834 (USD); ComponentLink1URL: https://datasheet.ciiva.com/24216/c3216x7r2a474k160aa-265239-24216507.pdf?src-supplier=Mouser; ComponentLink1Description: https://datasheet.ciiva.com/24216/c3216x7r2a474k160aa-265239-24216507.pdf?src-supplier=Mouser; ComponentLink2URL: https://datasheet.ciiva.com/11787/0900766b80fc5cba-11787550.pdf?src-supplier=Rs; ComponentLink2Description: https://datasheet.ciiva.com/11787/0900766b80fc5cba-11787550.pdf?src-supplier=Rs; ComponentLink3URL: https://datasheet.ciiva.com/28620/1484596-28620551.pdf?src-supplier=Element14; ComponentLink3Description: https://datasheet.ciiva.com/28620/1484596-28620551.pdf?src-supplier=Element14; ComponentLink4URL: https://datasheet.ciiva.com/15215/getdatasheetpartid-728365-15215916.pdf?src-supplier=Verical; ComponentLink4Description: https://datasheet.ciiva.com/15215/getdatasheetpartid-728365-15215916.pdf?src-supplier=Verical; Supplier Part Number 1: C3216X7R2A474K160AA
footprint C1206B/3216MM (Chip Capacitor, 2-Leads, Body 3.2x1.6mm, IPC Medium Density)
pins: 1, 2

## C3216X7R2E104K160AA
designator C?, comment 100nF
Multilayer Ceramic Capacitor, 0.1 uF, 250 V, ± 10%, X7R, 1206 [3216 Metric]; Manufacturer: TDK; Manufacturer Part Number: C3216X7R2E104K160AA; Material: 4241ConductorMaterial; Voltage Rating: 250V; Supplier 1: Arrow Electronics; RoHS: Yes; Category: Ceramic Capacitors; Stock 1: 478; Pricing 1: 1=0.2799, 10=0.1979, 25=0.1925, 50=0.1414, 100=0.1115, 250=0.058 (USD); Mount: Surface Mount; Case/Package: 1206; Case Code (Metric): 3216; Case Code (Imperial): 1206; Weight: 0.000571oz; Min Operating Temperature: -55°C; Max Operating Temperature: 125°C; Capacitance: 100nF; Tolerance: 10%; Package Quantity: 1; Packaging: Tape and Reel; Voltage Rating (DC): 250V; Dielectric: X7R; Termination: SMD/SMT; Voltage: 250V; Series: C; Length: 3.2mm; Width: 0.063inch; Height: 1.6mm; Thickness: 0.071inch; Depth: 1.6mm; Reach SVHC Compliant: No; Lead Free: Lead Free; RoHS Compliant: Yes; ComponentLink1URL: https://datasheet.ciiva.com/11788/0900766b80fc5cba-11788223.pdf?src-supplier=Rs; ComponentLink1Description: https://datasheet.ciiva.com/11788/0900766b80fc5cba-11788223.pdf?src-supplier=Rs; ComponentLink2URL: https://datasheet.ciiva.com/24216/c3216x7r2e104k160aa-265453-24216524.pdf?src-supplier=Mouser; ComponentLink2Description: https://datasheet.ciiva.com/24216/c3216x7r2e104k160aa-265453-24216524.pdf?src-supplier=Mouser; ComponentLink3URL: https://datasheet.ciiva.com/22684/1484596-22684136.pdf?src-supplier=Element14; ComponentLink3Description: https://datasheet.ciiva.com/22684/1484596-22684136.pdf?src-supplier=Element14; ComponentLink4URL: https://datasheet.ciiva.com/7975/1484596-7975133.pdf?src-supplier=Element14; ComponentLink4Description: https://datasheet.ciiva.com/7975/1484596-7975133.pdf?src-supplier=Element14; ComponentLink5URL: https://datasheet.ciiva.com/22694/1484596-22694168.pdf?src-supplier=Element14; ComponentLink5Description: https://datasheet.ciiva.com/22694/1484596-22694168.pdf?src-supplier=Element14; Supplier Part Number 1: C3216X7R2E104K160AA
footprint C1206B/3216MM (Chip Capacitor, 2-Leads, Body 3.2x1.6mm, IPC Medium Density)
pins: 1, 2

## C3225X5R0J476M250AA
designator C?, comment 47uF
Multilayer Ceramic Capacitor, C Series, 47 - F, - 20%, X5r, 6.3 V, 1210 [3225 Metric]; Manufacturer: TDK; Manufacturer Part Number: C3225X5R0J476M250AA; Inductance: 680nH; Resistance: 12.5mR; Supplier 1: Arrow Electronics; RoHS: Yes; Category: Ceramic Capacitors; Stock 1: 14000; Pricing 1: 1000=0.2002, 2000=0.192, 5000=0.1826, 10000=0.1804 (USD); ComponentLink1URL: https://datasheet.ciiva.com/15192/getdatasheetpartid-726779-15192296.pdf?src-supplier=Verical; ComponentLink1Description: https://datasheet.ciiva.com/15192/getdatasheetpartid-726779-15192296.pdf?src-supplier=Verical; ComponentLink2URL: https://datasheet.ciiva.com/11787/0900766b80c1bb00-11787450.pdf?src-supplier=Rs; ComponentLink2Description: https://datasheet.ciiva.com/11787/0900766b80c1bb00-11787450.pdf?src-supplier=Rs; ComponentLink3URL: https://datasheet.ciiva.com/6286/tdkmlcccaprange-6286125.pdf?src-supplier=Digi-Key; ComponentLink3Description: https://datasheet.ciiva.com/6286/tdkmlcccaprange-6286125.pdf?src-supplier=Digi-Key; ComponentLink4URL: https://datasheet.ciiva.com/16498/e412-c-16498758.pdf?src-supplier=Future+Electronics; ComponentLink4Description: https://datasheet.ciiva.com/16498/e412-c-16498758.pdf?src-supplier=Future+Electronics; ComponentLink5URL: https://datasheet.ciiva.com/6145/1571323-6145099.pdf?src-supplier=Farnell; ComponentLink5Description: https://datasheet.ciiva.com/6145/1571323-6145099.pdf?src-supplier=Farnell; ComponentLink6URL: https://datasheet.ciiva.com/22648/1571323-22648719.pdf?src-supplier=Element14; ComponentLink6Description: https://datasheet.ciiva.com/22648/1571323-22648719.pdf?src-supplier=Element14; ComponentLink7URL: https://datasheet.ciiva.com/7770/1571323-7770238.pdf?src-supplier=Element14; ComponentLink7Description: https://datasheet.ciiva.com/7770/1571323-7770238.pdf?src-supplier=Element14; Supplier Part Number 1: C3225X5R0J476M250AA
footprint C1210
pins: 1, 2

## CC0201JRNPO9BN220
designator C?, comment 22pF
0201 22 pF 50 V ±5 % Tolerance NP0 SMT Multilayer Ceramic Capacitor; Manufacturer: Yageo; Manufacturer Part Number: CC0201JRNPO9BN220; Supplier 1: Future Electronics; RoHS: Yes; Category: Ceramic Capacitors; Stock 1: 2130000; Pricing 1: 15000=0.0012, 60000=0.0011, 225000=0.0011, 600000=0.001, 1500000=0.001 (USD); Halogen Free: 5694HalogenFree; ComponentLink1URL: https://datasheet.ciiva.com/22653/1443161-22653023.pdf?src-supplier=Farnell; ComponentLink1Description: https://datasheet.ciiva.com/22653/1443161-22653023.pdf?src-supplier=Farnell; ComponentLink2URL: https://datasheet.ciiva.com/7661/1443161-7661754.pdf?src-supplier=Element14; ComponentLink2Description: https://datasheet.ciiva.com/7661/1443161-7661754.pdf?src-supplier=Element14; ComponentLink3URL: https://datasheet.ciiva.com/176/mlccorderingcode-176669.pdf?src-supplier=Digi-Key; ComponentLink3Description: https://datasheet.ciiva.com/176/mlccorderingcode-176669.pdf?src-supplier=Digi-Key; ComponentLink4URL: https://datasheet.ciiva.com/176/mlccorderingcode-176670.pdf?src-supplier=Digi-Key; ComponentLink4Description: https://datasheet.ciiva.com/176/mlccorderingcode-176670.pdf?src-supplier=Digi-Key; ComponentLink5URL: https://datasheet.ciiva.com/176/mlccorderingcode-176671.pdf?src-supplier=Digi-Key; ComponentLink5Description: https://datasheet.ciiva.com/176/mlccorderingcode-176671.pdf?src-supplier=Digi-Key; ComponentLink6URL: https://datasheet.ciiva.com/16743/upy-gp-np0-16v-to-50v-8-16743595.pdf?src-supplier=Future+Electronics; ComponentLink6Description: https://datasheet.ciiva.com/16743/upy-gp-np0-16v-to-50v-8-16743595.pdf?src-supplier=Future+Electronics; Supplier Part Number 1: 2014702
footprint C0201
pins: 1, 2

## CC0201KRX5R6BB104
designator C?, comment 100nF
Multilayer Ceramic Capacitor, 0.1 uF, 16 V, ± 10%, X5R, 0201 [0603 Metric]; Manufacturer: Yageo; Manufacturer Part Number: CC0201KRX5R6BB104; Material: 4241ConductorMaterial; Voltage Rating (DC): 10V; Supplier 1: Future Electronics; RoHS: Yes; Category: Ceramic Capacitors; Stock 1: 10410000; Pricing 1: 15000=0.0027, 60000=0.0026, 150000=0.0025, 375000=0.0024, 600000=0.0023 (USD); Mount: Surface Mount; Case/Package: 0201; Case Code (Imperial): 0201; Case Code (Metric): 0603; Weight: 6E-06oz; Min Operating Temperature: -55°C; Max Operating Temperature: 85°C; Capacitance: 100nF; Tolerance: 10%; Dielectric: X5R; Packaging: Tape and Reel; Termination: SMD/SMT; Voltage Rating: 10V; Series: CC; Construction: Flat; Length: 0.6mm; Height: 0.3mm; Depth: 0.3mm; Radiation Hardening: No; RoHS Compliant: Yes; Halogen Free: 5694HalogenFree; Lead Free: 5697LeadFree; ComponentLink1URL: https://datasheet.ciiva.com/11587/upy-gphc-x5r-4v-to-50v-12-11587190.pdf?src-supplier=Avnet; ComponentLink1Description: https://datasheet.ciiva.com/11587/upy-gphc-x5r-4v-to-50v-12-11587190.pdf?src-supplier=Avnet; Supplier Part Number 1: 5050553
footprint C0201
pins: 1, 2

## CC0201KRX7R7BB102
designator C?, comment 1nF
0201 1 nF 16 V ±10 % Tolerance X7R SMT Multilayer Ceramic Capacitor; Manufacturer: Yageo; Manufacturer Part Number: CC0201KRX7R7BB102; Material: 4241ConductorMaterial; Supplier 1: Future Electronics; RoHS: Yes; Category: Ceramic Capacitors; Stock 1: 1200000; Pricing 1: 15000=0.0015, 60000=0.0014, 225000=0.0013, 600000=0.0013, 1500000=0.0012 (USD); Number of Pins: 2NUMBER; Halogen Free: 5694HalogenFree; Lead Free: 5697LeadFree; ComponentLink1URL: https://datasheet.ciiva.com/13264/upy-gp-np0-16v-to-50v-8-3714-13264508.pdf?src-supplier=Mouser; ComponentLink1Description: https://datasheet.ciiva.com/13264/upy-gp-np0-16v-to-50v-8-3714-13264508.pdf?src-supplier=Mouser; ComponentLink2URL: https://datasheet.ciiva.com/176/mlccorderingcode-176507.pdf?src-supplier=Digi-Key; ComponentLink2Description: https://datasheet.ciiva.com/176/mlccorderingcode-176507.pdf?src-supplier=Digi-Key; ComponentLink3URL: https://datasheet.ciiva.com/176/mlccorderingcode-176508.pdf?src-supplier=Digi-Key; ComponentLink3Description: https://datasheet.ciiva.com/176/mlccorderingcode-176508.pdf?src-supplier=Digi-Key; ComponentLink4URL: https://datasheet.ciiva.com/176/mlccorderingcode-176509.pdf?src-supplier=Digi-Key; ComponentLink4Description: https://datasheet.ciiva.com/176/mlccorderingcode-176509.pdf?src-supplier=Digi-Key; Supplier Part Number 1: 8690174
footprint C0201
pins: 1, 2

## CC0201MRX5R5BB105
designator C?, comment 1uF
Multilayer Ceramic Capacitor, 1 uF, 50 V, ± 0.1pF, C0G (NP0), 0201 [1005 Metric]; Manufacturer: Yageo; Manufacturer Part Number: CC0201MRX5R5BB105; Material: 4241ConductorMaterial; Voltage Rating (DC): 6.3V; Tolerance: 20%; Dielectric: X5R; Supplier 1: Arrow Electronics; RoHS: Yes; Category: Ceramic Capacitors; Stock 1: 4273; Pricing 1: 1=0.0528, 10=0.0235, 25=0.0164, 100=0.0113, 250=0.0112, 500=0.0095, 1000=0.0081, 3000=0.0066 (USD); Mount: Surface Mount; Case/Package: 0201; Case Code (Imperial): 0201; Case Code (Metric): 0603; Weight: 6E-06oz; Min Operating Temperature: -55°C; Max Operating Temperature: 85°C; Capacitance: 1uF; Packaging: Tape and Reel; Voltage Rating: 6.3V; Termination: SMD/SMT; Series: CC; Height: 330um; Lead Free: Lead Free; Halogen Free: Halogen Free; RoHS Compliant: Yes; ComponentLink1URL: http://www.mouser.com/ds/2/447/UPY-GPHC_X5R_4V-to-50V_25-1131599.pdf?src-supplier=Mouser; ComponentLink1Description: http://www.mouser.com/ds/2/447/UPY-GPHC_X5R_4V-to-50V_25-1131599.pdf?src-supplier=Mouser; ComponentLink2URL: http://www.yageo.com/documents/recent/UPY-GPHC_X5R_4V-to-50V_25.pdf?src-supplier=Digi-Key; ComponentLink2Description: http://www.yageo.com/documents/recent/UPY-GPHC_X5R_4V-to-50V_25.pdf?src-supplier=Digi-Key; ComponentLink3URL: https://datasheet.octopart.com/CC0201MRX5R5BB105-Yageo-datasheet-140260304.pdf?src-supplier=Newark; ComponentLink3Description: https://datasheet.octopart.com/CC0201MRX5R5BB105-Yageo-datasheet-140260304.pdf?src-supplier=Newark; ComponentLink4URL: https://datasheet.octopart.com/CC0201MRX5R5BB105-Yageo-datasheet-170350636.pdf?src-supplier=Future+Electronics; ComponentLink4Description: https://datasheet.octopart.com/CC0201MRX5R5BB105-Yageo-datasheet-170350636.pdf?src-supplier=Future+Electronics; ComponentLink5URL: https://www.yageo.com/upload/media/product/productsearch/datasheet/mlcc/UPY-GPHC_X5R_4V-to-50V_26.pdf?src-supplier=Digi-Key; ComponentLink5Description: https://www.yageo.com/upload/media/product/productsearch/datasheet/mlcc/UPY-GPHC_X5R_4V-to-50V_26.pdf?src-supplier=Digi-Key; ComponentLink6URL: http://www.yageo.com/exep/pages/download/literatures/ProductSelectionGuide%202014_Final_2.pdf?src-supplier=Digi-Key; ComponentLink6Description: http://www.yageo.com/exep/pages/download/literatures/ProductSelectionGuide%202014_Final_2.pdf?src-supplier=Digi-Key; Supplier Part Number 1: CC0201MRX5R5BB105
footprint C0201
pins: 1, 2

## CC0402FRNPO9BN360
designator C?, comment 36pF
Capacitor Ceramic 36pF 50V C0G 1% 0402 Paper T/R; Manufacturer: Yageo; Manufacturer Part Number: CC0402FRNPO9BN360; Supplier 1: Digi-Key; RoHS: No; Category: Ceramic Capacitors; Stock 1: 9940; Pricing 1: 1=0.1, 10=0.048, 50=0.0278, 100=0.0215, 500=0.0162, 1000=0.01272, 2500=0.01156, 5000=0.01064 (USD); Supplier Part Number 1: 13-CC0402FRNPO9BN360CT-ND
footprint C0402
pins: 1, 2

## CC0402KRX5R6BB105
designator C?, comment 1uF
Multilayer Ceramic Capacitor, 1 uF, 16 V, ± 20%, C0G (NP0), 0201 [0603 Metric]; Manufacturer: Yageo; Manufacturer Part Number: CC0402KRX5R6BB105; Tolerance: 10%; Dielectric: X5R; Voltage Rating: 10V; Dissipation Factor: 15%; Temperature Coefficient: 30ppm/°C; Supplier 1: Future Electronics; RoHS: Yes; Category: Ceramic Capacitors; Stock 1: 11730000; Pricing 1: 10000=0.0105, 30000=0.0101, 50000=0.0098, 100000=0.0095, 200000=0.0091 (USD); Mount: Surface Mount; Case/Package: 0402; Number of Pins: 2; Case Code (Metric): 1005; Case Code (Imperial): 0402; Min Operating Temperature: -55°C; Max Operating Temperature: 85°C; Capacitance: 1uF; Package Quantity: 1; Packaging: Tape and Reel; Voltage Rating (DC): 10V; Termination: SMD/SMT; Series: CC; Construction: Flat; Length: 1mm; Width: 0.02inch; Height: 0.5mm; Thickness: 0.022inch; Depth: 0.5mm; Radiation Hardening: No; Reach SVHC Compliant: No; RoHS Compliant: Yes; ComponentLink1URL: https://datasheet.ciiva.com/176/upy-gphc-x5r-4v-to-50v-12-176704.pdf?src-supplier=Digi-Key; ComponentLink1Description: https://datasheet.ciiva.com/176/upy-gphc-x5r-4v-to-50v-12-176704.pdf?src-supplier=Digi-Key; ComponentLink2URL: https://datasheet.ciiva.com/176/mlccorderingcode-176705.pdf?src-supplier=Digi-Key; ComponentLink2Description: https://datasheet.ciiva.com/176/mlccorderingcode-176705.pdf?src-supplier=Digi-Key; ComponentLink3URL: https://datasheet.ciiva.com/176/mlccorderingcode-176706.pdf?src-supplier=Digi-Key; ComponentLink3Description: https://datasheet.ciiva.com/176/mlccorderingcode-176706.pdf?src-supplier=Digi-Key; Supplier Part Number 1: 7826878
footprint C0402
pins: 1, 2